# Altium footprint library EVQ-PUL02K.PcbLib: 1 footprints
Each footprint in its own frame and in the unit in brackets; x right, y up, seen from the top. Pads: shape width x height; smd on the part's side, far side on the other; paste and mask are expansions set on the pad; w line width, h text height; cw(c..) or ccw(c..) is an arc to the next point about the centre after c.
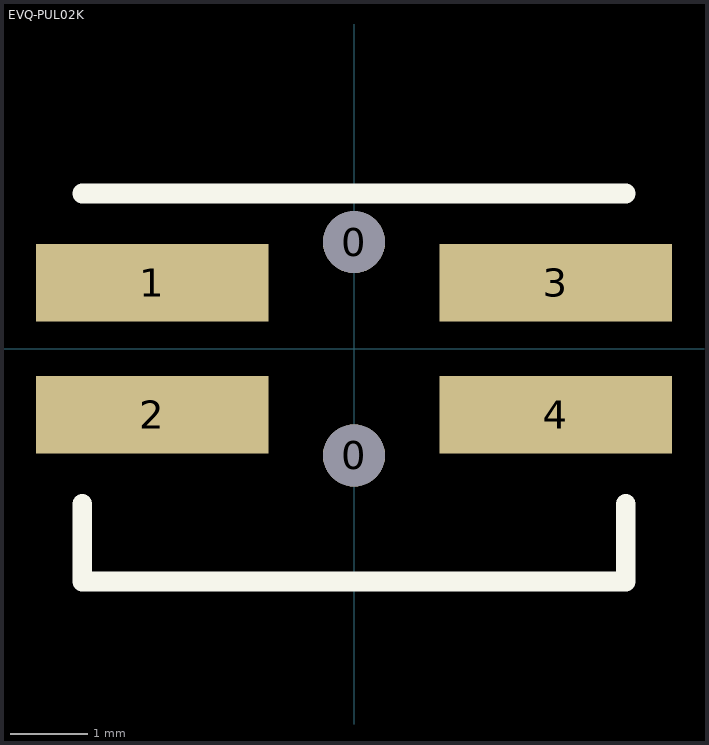
[diagram p0: the footprint, top view; thin cyan lines are the x and y axes]

## EVQ-PUL02K [mm]
pads (6):
  round 0.8 hole 0.8 unplated: 0(0,-1.375) 0(0,1.375)
  rect 3x1 smd: 1(-2.6,0.85) 2(-2.6,-0.85) 3(2.6,0.85) 4(2.6,-0.85)
Top Overlay:
  lines w0.254: -3.5,-2 -3.5,-3 3.5,-3 3.5,-2 ; -3.5,2 3.5,2
3D body: height 1.65, standoff -0.5, extent -3.2,-2.75 3.2,1.79